# EAGLE library part TLV5628C (library kmarx1)
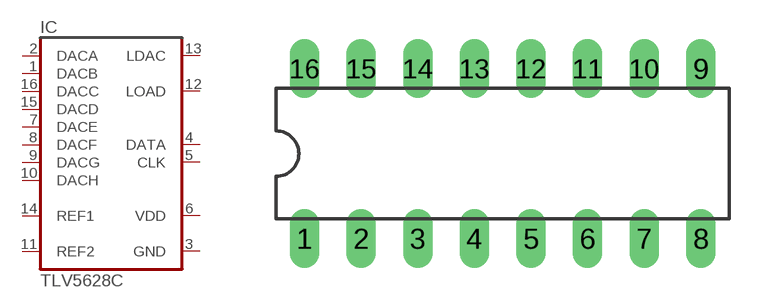
[diagram p0: symbol with the pads of DIL16; footprint DIL16]

Designator prefix IC

## TLV5628C  [DIL16]
1  DACB  out
2  DACA  out
3  GND  pwr
4  DATA  in
5  CLK  in
6  VDD  pwr
7  DACE  out
8  DACF  out
9  DACG  out
10  DACH  out
11  REF2  in
12  LOAD  in
13  LDAC  in
14  REF1  in
15  DACD  out
16  DACC  out

## Footprint DIL16 (pad centres in mm)
drill 0.813 long: 1 -8.89,-3.81; 2 -6.35,-3.81; 3 -3.81,-3.81; 4 -1.27,-3.81; 5 1.27,-3.81; 6 3.81,-3.81; 7 6.35,-3.81; 8 8.89,-3.81; 9 8.89,3.81; 10 6.35,3.81; 11 3.81,3.81; 12 1.27,3.81; 13 -1.27,3.81; 14 -3.81,3.81; 15 -6.35,3.81; 16 -8.89,3.81